# EAGLE library part TCA9406 (library open-ephys)
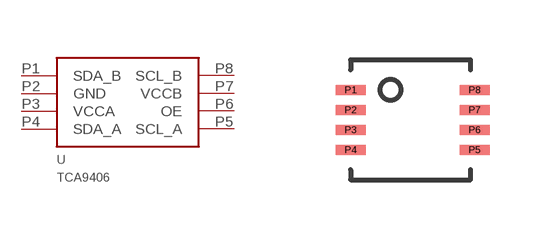
[diagram p9: symbol with the pads of DCU; footprint DCU]

Designator prefix -

## TCA9406  [DCU]
P1  SDA_B
P2  GND
P3  VCCA
P4  SDA_A
P5  SCL_A
P6  OE
P7  VCCB
P8  SCL_B

## Footprint DCU (pad centres in mm)
smd 0.75 x 0.25: P1 -1.5,0.75; P2 -1.5,0.25; P3 -1.5,-0.25; P4 -1.5,-0.75; P5 1.6,-0.75; P6 1.6,-0.25; P7 1.6,0.25; P8 1.6,0.75